# EAGLE library part DIP-08 (library DD_SparkfunSwitches)
8-Position DIP Switch 8-circuit DIP (dual inline package) switch. Commonly used to physcially set a circuit's behavior. SparkFun Products DIP Switch - 8 Position <https://www.sparkfun.com/products/8034> (COM-08034)
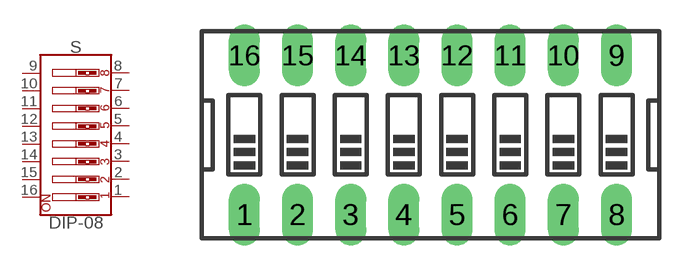
[diagram p9: symbol with the pads of DIPSWITCH-08; footprint DIPSWITCH-08]

Designator prefix S

## DIP-08-PTH (PROD_ID: SWCH-12197; SF_SKU: COM-08034)  [DIPSWITCH-08]
1  1  pas
2  2  pas
3  3  pas
4  4  pas
5  5  pas
6  6  pas
7  7  pas
8  8  pas
9  9  pas
10  10  pas
11  11  pas
12  12  pas
13  13  pas
14  14  pas
15  15  pas
16  16  pas

## Footprint DIPSWITCH-08 (pad centres in mm)
8-Position DIP Switch - PTH, 0.1"-Pitch Standard size through-hole DIP switch, 2.54 mm / 0.1" pitch Datasheet <http://www.sparkfun.com/datasheets/Components/Switch-DIP8.pdf>
drill 0.97 long: 1 -8.89,-3.81; 2 -6.35,-3.81; 3 -3.81,-3.81; 4 -1.27,-3.81; 5 1.27,-3.81; 6 3.81,-3.81; 7 6.35,-3.81; 8 8.89,-3.81; 9 8.89,3.81; 10 6.35,3.81; 11 3.81,3.81; 12 1.27,3.81; 13 -1.27,3.81; 14 -3.81,3.81; 15 -6.35,3.81; 16 -8.89,3.81